# Altium footprint library rectifier_PcbLib1.PcbLib: 5 footprints
Each footprint in its own frame and in the unit in brackets; x right, y up, seen from the top. Pads: shape width x height; smd on the part's side, far side on the other; paste and mask are expansions set on the pad; w line width, h text height; cw(c..) or ccw(c..) is an arc to the next point about the centre after c.
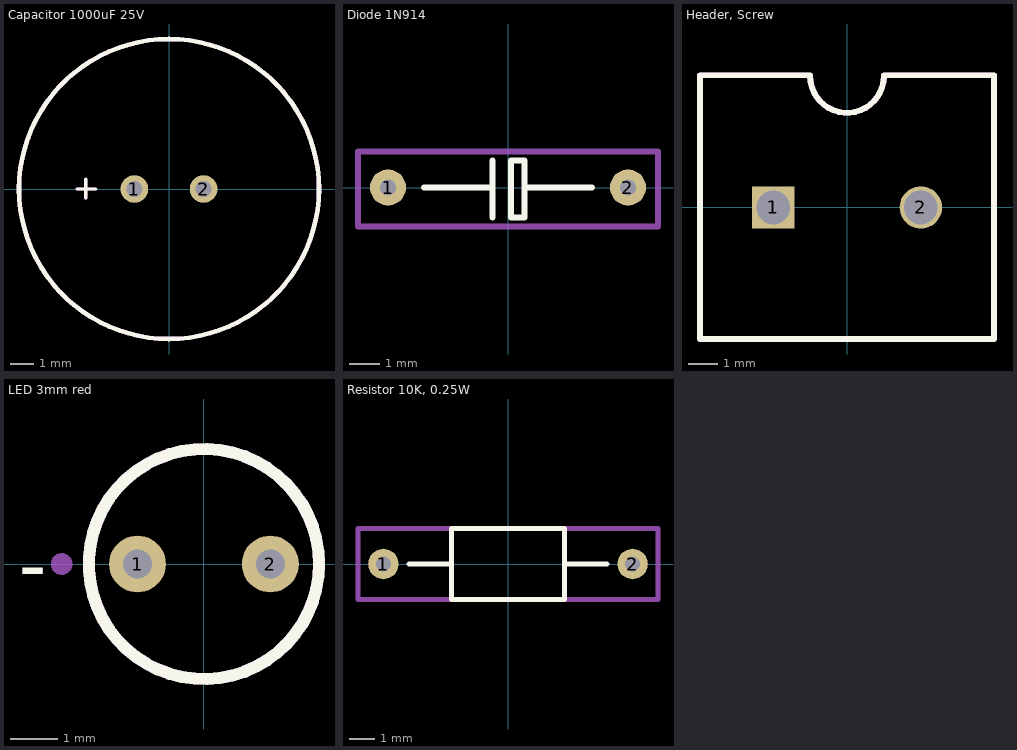
[diagram p0: the footprints below, top view; thin cyan lines are the x and y axes]

## Capacitor 1000uF 25V [mm]
pads (2):
  round 1.2 hole 0.7: 1(-1.5,0) 2(1.5,0)
Top Overlay:
  circle w0.2: c0,0 r6.5
  lines w0.15: -3.984,0 -3.184,0 ; -3.6,-0.378 -3.6,0.422
Mechanical 29:
  circle w0.2: c0,0 r6.5
  lines w0.15: -4,0 -3.2,0 ; -3.6,-0.4 -3.6,0.4
  text ".Designator" at -3.1,3.233 h0.7
3D body "capa_1000uF_25V.stp": height 21.02, standoff -19.99, extent -6.5,-6.41 6.5,6.61

## Diode 1N914 [mm]
pads (2):
  round 1.2 hole 0.533: 1(-4,0) 2(4,0)
Top Overlay:
  lines w0.2: -2.8,0 -0.517,0 ; -0.517,-1 -0.517,0.9 ; 0.65,0 2.8,0 ; 0.1,-1 0.55,-1 0.55,0.9 0.1,0.9 0.1,0 0.1,-1
Mechanical 29:
  lines w0.2: -5,-1.3 5,-1.3 5,1.2 -5,1.2 -5,-1.3
  text ".Designator" at -3.6,1.833 h0.7
  text "-" at 5.4,-0.35 h0.7
3D body "Diodo 1N914 (Pitch 280mils).step": height 0.83, standoff -3.82, extent -3.864,-0.876 3.864,0.8

## Header, Screw [mm]
pads (2):
  rect 1.45x1.45 hole 1.15: 1(-2.525,0)
  round 1.45 hole 1.15: 2(2.525,0)
Top Overlay:
  lines w0.2: -1.262,4.5 ccw(c0,4.5) 1.262,4.5 ; -1.262,4.525 -5.025,4.525 -5.025,-4.5 5.025,-4.5 ; 1.262,4.525 5.025,4.525 ; 5.025,-4.47 5.025,4.509
Mechanical 29:
  lines w0.2: -1.262,4.5 ccw(c0,4.5) 1.262,4.5 ; -1.262,4.525 -5.025,4.525 -5.025,-4.5 5.025,-4.5 ; 1.262,4.525 5.025,4.525 ; 5.025,-4.47 5.025,4.509
  text ".Designator" at -5,5.033 h0.7
3D body "header_screw_5mm_WJ127-5_0-2P.step": height 10.1, standoff -3, extent -5,-4 5,4.1

## LED 3mm red [mm]
pads (2):
  round 1.2 hole 0.61: 1(-1.4,0) 2(1.4,0)
Top Overlay:
  circle w0.254: c0,0 r2.427
  text "-" at -3.9,-0.6 h1.2
Mechanical 29:
  circle w0.254: c0,0 r2.427
  circle w0.254: c-3,0 r0.1
  text ".Designator" at -3.4,2.933 h0.7
3D body "CircuitWorks-LED DIP 3MM.step": height 6.5, standoff -2, extent -1.755,-1.9 1.745,1.9

## Resistor 10K, 0.25W [mm]
pads (2):
  round 1.2 hole 0.6: 1(-4.9,0) 2(4.9,0)
Top Overlay:
  lines w0.2: -3.9,0 -2.225,0 ; 2.225,0 3.9,0 ; -2.225,0 -2.225,1.397 2.225,1.397 2.225,-1.397 -2.225,-1.397 -2.225,0
Mechanical 29:
  lines w0.2: -5.9,-1.4 5.9,-1.4 5.9,1.4 -5.9,1.4 -5.9,-1.4
  text ".Designator" at -3.4,1.933 h0.7
3D body "Res40-Axial 0_25W-10K.step": height 2.41, standoff -2, extent -5.38,-1.191 5.38,1.191